# EAGLE library part SWITCH:DG419(SPDT) (library QuantumOptics)
SPDT Analog Switch, Maxim, general purpose, needs seperate Vlogic (<<1uA) to set logic slice level, can do +10V to ±20V.
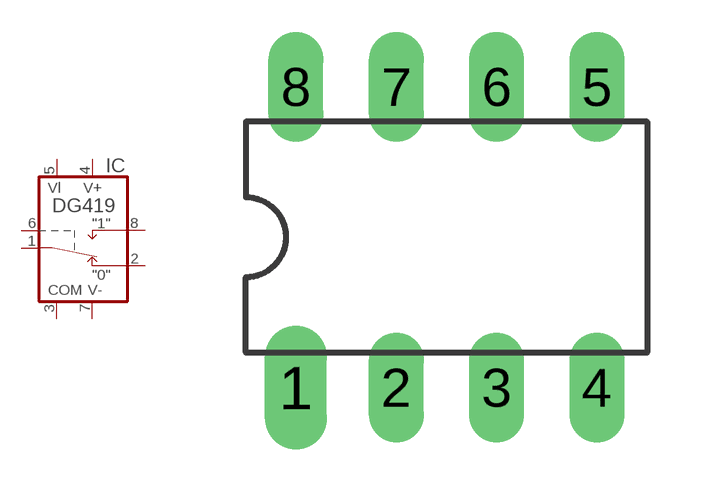
[diagram p25: symbol with the pads of DIL08; footprint DIL08]

Designator prefix IC

## SWITCH:DG419(SPDT)CJ  [DIL08]
1  C
2  NC-0
3  COM  in
4  V+  in
5  VL  in
6  LOGIC  in
7  V-  in
8  NO-1

## Footprint DIL08 (pad centres in mm)
Dual In Line Package
drill 0.889 pad 1.575 long: 1 -3.81,-3.81
drill 0.889 long: 2 -1.27,-3.81; 3 1.27,-3.81; 4 3.81,-3.81; 5 3.81,3.81; 6 1.27,3.81; 7 -1.27,3.81; 8 -3.81,3.81